# Altium footprint library Конденсатор К10-17Б М47 X.X.xФ  NP0 5% [DIP].PcbLib: 2 footprints
Each footprint in its own frame and in the unit in brackets; x right, y up, seen from the top. Pads: shape width x height; smd on the part's side, far side on the other; paste and mask are expansions set on the pad; w line width, h text height; cw(c..) or ccw(c..) is an arc to the next point about the centre after c.
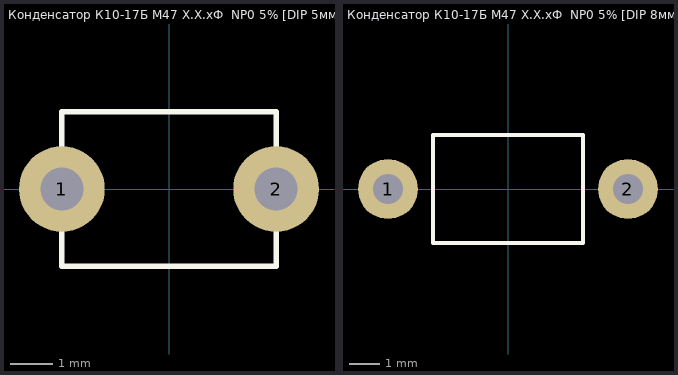
[diagram p0: the footprints below, top view; thin cyan lines are the x and y axes]

## Конденсатор К10-17Б М47 X.X.xФ  NP0 5% [DIP 5мм] [mm]
pads (2):
  round 2 hole 1 unplated: 1(-2.5,0) 2(2.5,0)
Top Overlay:
  lines w0.127: -2.5,-1.8 -2.5,1.8 2.5,1.8 2.5,-1.8 -2.5,-1.8

## Конденсатор К10-17Б М47 X.X.xФ  NP0 5% [DIP 8мм] [mm]
pads (2):
  round 2 hole 1 unplated: 1(-4,0) 2(4,0)
Top Overlay:
  lines w0.127: -2.5,-1.8 -2.5,1.8 2.5,1.8 2.5,-1.8 -2.5,-1.8